# EAGLE library part EPF10K10-P208 (library altera_pga84)
EPF10K10 FLEX 10K family
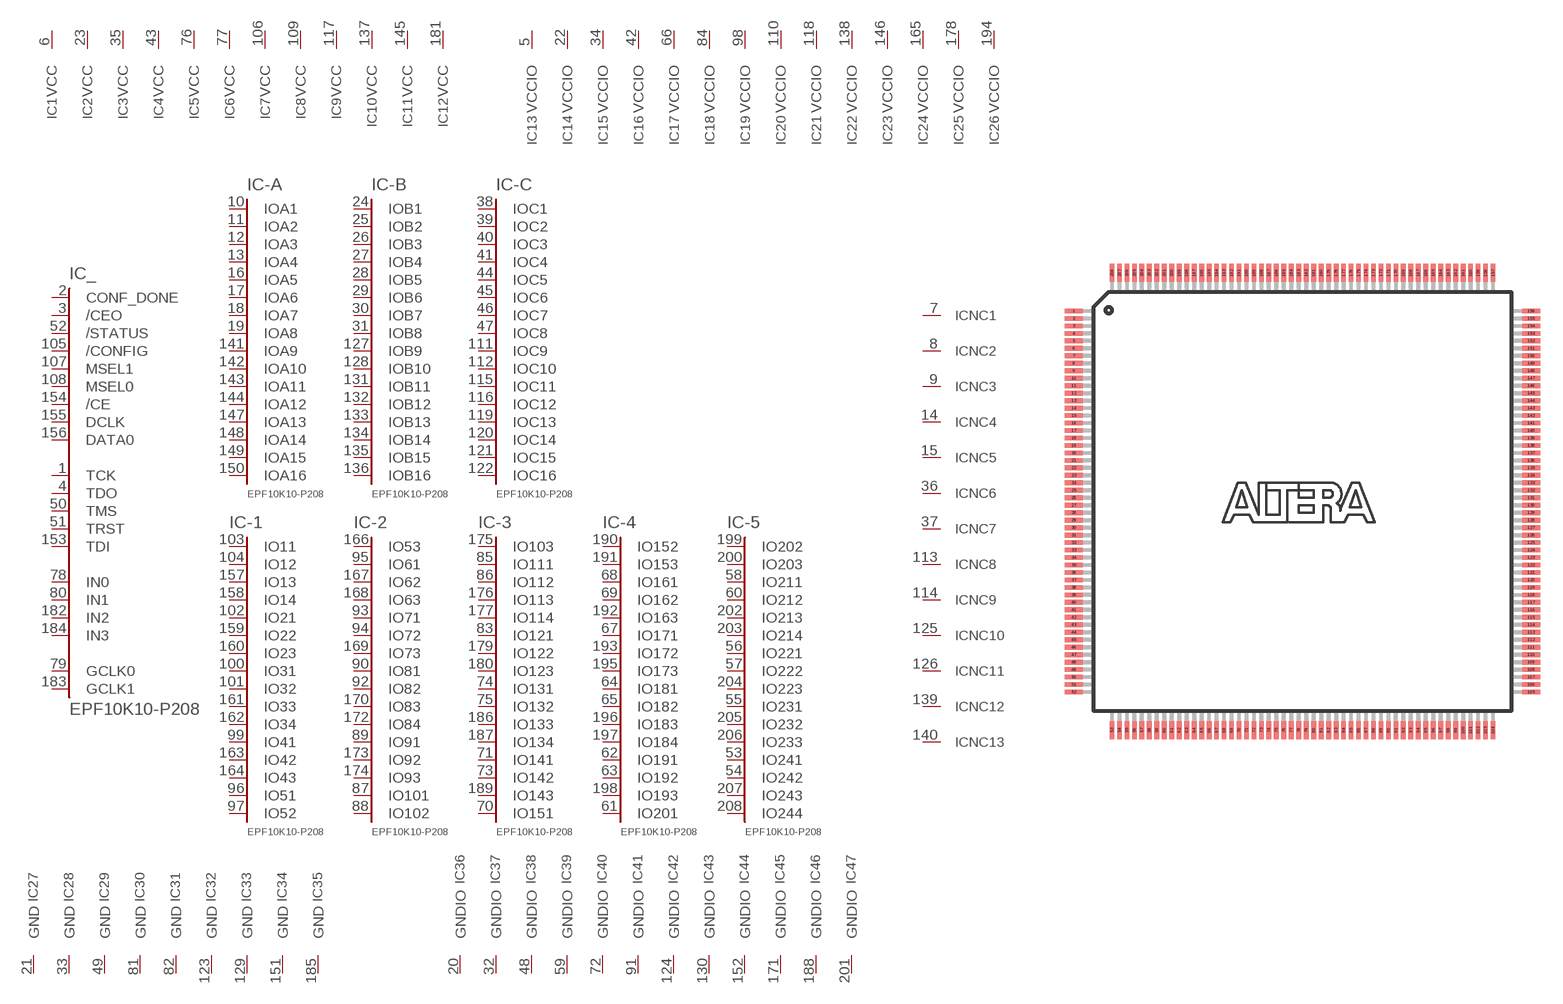
[diagram p55: symbol with the pads of PQFP208; footprint PQFP208]

Designator prefix IC; gates _=K10-CTRL -A=A16 -B=B16 -C=C16 -1=52-K10 -2=102-K10 -3=151-K10 -4=201-K10 -5=244-K10 1=VCCINT 2=VCCINT 3=VCCINT 4=VCCINT 5=VCCINT 6=VCCINT 7=VCCINT 8=VCCINT 9=VCCINT 10=VCCINT 11=VCCINT 12=VCCINT 13=VCCIO 14=VCCIO 15=VCCIO 16=VCCIO 17=VCCIO 18=VCCIO 19=VCCIO 20=VCCIO 21=VCCIO 22=VCCIO 23=VCCIO 24=VCCIO 25=VCCIO 26=VCCIO 27=GNDINT 28=GNDINT 29=GNDINT 30=GNDINT 31=GNDINT 32=GNDINT 33=GNDINT 34=GNDINT 35=GNDINT 36=GNDIO 37=GNDIO 38=GNDIO 39=GNDIO 40=GNDIO 41=GNDIO 42=GNDIO 43=GNDIO 44=GNDIO 45=GNDIO 46=GNDIO 47=GNDIO NC1=NC NC2=NC NC3=NC NC4=NC NC5=NC NC6=NC NC7=NC NC8=NC NC9=NC NC10=NC NC11=NC NC12=NC NC13=NC

## EPF10K10-P208 (MPN: EPF10K10AQC208-3N; OC_FARNELL: 1549381; OC_NEWARK: 51R8749)  [PQFP208]
1  _:TCK
2  _:CONF_DONE  in
3  _:/CEO  in
4  _:TDO
5  13:VCCIO  pwr
6  1:VCC  pwr
7  NC1:NC  nc
8  NC2:NC  nc
9  NC3:NC  nc
10  -A:IOA1
11  -A:IOA2
12  -A:IOA3
13  -A:IOA4
14  NC4:NC  nc
15  NC5:NC  nc
16  -A:IOA5
17  -A:IOA6
18  -A:IOA7
19  -A:IOA8
20  36:GNDIO  pwr
21  27:GND  pwr
22  14:VCCIO  pwr
23  2:VCC  pwr
24  -B:IOB1
25  -B:IOB2
26  -B:IOB3
27  -B:IOB4
28  -B:IOB5
29  -B:IOB6
30  -B:IOB7
31  -B:IOB8
32  37:GNDIO  pwr
33  28:GND  pwr
34  15:VCCIO  pwr
35  3:VCC  pwr
36  NC6:NC  nc
37  NC7:NC  nc
38  -C:IOC1
39  -C:IOC2
40  -C:IOC3
41  -C:IOC4
42  16:VCCIO  pwr
43  4:VCC  pwr
44  -C:IOC5
45  -C:IOC6
46  -C:IOC7
47  -C:IOC8
48  38:GNDIO  pwr
49  29:GND  pwr
50  _:TMS
51  _:TRST
52  _:/STATUS  in
53  -5:IO241
54  -5:IO242
55  -5:IO231
56  -5:IO221
57  -5:IO222
58  -5:IO211
59  39:GNDIO  pwr
60  -5:IO212
61  -4:IO201
62  -4:IO191
63  -4:IO192
64  -4:IO181
65  -4:IO182
66  17:VCCIO  pwr
67  -4:IO171
68  -4:IO161
69  -4:IO162
70  -3:IO151
71  -3:IO141
72  40:GNDIO  pwr
73  -3:IO142
74  -3:IO131
75  -3:IO132
76  5:VCC  pwr
77  6:VCC  pwr
78  _:IN0  in
79  _:GCLK0  in
80  _:IN1  in
81  30:GND  pwr
82  31:GND  pwr
83  -3:IO121
84  18:VCCIO  pwr
85  -3:IO111
86  -3:IO112
87  -2:IO101
88  -2:IO102
89  -2:IO91
90  -2:IO81
91  41:GNDIO  pwr
92  -2:IO82
93  -2:IO71
94  -2:IO72
95  -2:IO61
96  -1:IO51
97  -1:IO52
98  19:VCCIO  pwr
99  -1:IO41
100  -1:IO31
101  -1:IO32
102  -1:IO21
103  -1:IO11
104  -1:IO12
105  _:/CONFIG  in
106  7:VCC  pwr
107  _:MSEL1  in
108  _:MSEL0  in
109  8:VCC  pwr
110  20:VCCIO  pwr
111  -C:IOC9
112  -C:IOC10
113  NC8:NC  nc
114  NC9:NC  nc
115  -C:IOC11
116  -C:IOC12
117  9:VCC  pwr
118  21:VCCIO  pwr
119  -C:IOC13
120  -C:IOC14
121  -C:IOC15
122  -C:IOC16
123  32:GND  pwr
124  42:GNDIO  pwr
125  NC10:NC  nc
126  NC11:NC  nc
127  -B:IOB9
128  -B:IOB10
129  33:GND  pwr
130  43:GNDIO  pwr
131  -B:IOB11
132  -B:IOB12
133  -B:IOB13
134  -B:IOB14
135  -B:IOB15
136  -B:IOB16
137  10:VCC  pwr
138  22:VCCIO  pwr
139  NC12:NC  nc
140  NC13:NC  nc
141  -A:IOA9
142  -A:IOA10
143  -A:IOA11
144  -A:IOA12
145  11:VCC  pwr
146  23:VCCIO  pwr
147  -A:IOA13
148  -A:IOA14
149  -A:IOA15
150  -A:IOA16
151  34:GND  pwr
152  44:GNDIO  pwr
153  _:TDI
154  _:/CE  in
155  _:DCLK  in
156  _:DATA0  in
157  -1:IO13
158  -1:IO14
159  -1:IO22
160  -1:IO23
161  -1:IO33
162  -1:IO34
163  -1:IO42
164  -1:IO43
165  24:VCCIO  pwr
166  -2:IO53
167  -2:IO62
168  -2:IO63
169  -2:IO73
170  -2:IO83
171  45:GNDIO  pwr
172  -2:IO84
173  -2:IO92
174  -2:IO93
175  -3:IO103
176  -3:IO113
177  -3:IO114
178  25:VCCIO  pwr
179  -3:IO122
180  -3:IO123
181  12:VCC  pwr
182  _:IN2  in
183  _:GCLK1  in
184  _:IN3  in
185  35:GND  pwr
186  -3:IO133
187  -3:IO134
188  46:GNDIO  pwr
189  -3:IO143
190  -4:IO152
191  -4:IO153
192  -4:IO163
193  -4:IO172
194  26:VCCIO  pwr
195  -4:IO173
196  -4:IO183
197  -4:IO184
198  -4:IO193
199  -5:IO202
200  -5:IO203
201  47:GNDIO  pwr
202  -5:IO213
203  -5:IO214
204  -5:IO223
205  -5:IO232
206  -5:IO233
207  -5:IO243
208  -5:IO244

## Footprint PQFP208 (pad centres in mm)
Plastic Quad Flat Pack
smd 1.2 x 0.32: 1 -15.3,12.75; 2 -15.3,12.25; 3 -15.3,11.75; 4 -15.3,11.25; 5 -15.3,10.75; 6 -15.3,10.25; 7 -15.3,9.75; 8 -15.3,9.25; 9 -15.3,8.75; 10 -15.3,8.25; 11 -15.3,7.75; 12 -15.3,7.25; 13 -15.3,6.75; 14 -15.3,6.25; 15 -15.3,5.75; 16 -15.3,5.25; 17 -15.3,4.75; 18 -15.3,4.25; 19 -15.3,3.75; 20 -15.3,3.25; 21 -15.3,2.75; 22 -15.3,2.25; 23 -15.3,1.75; 24 -15.3,1.25; 25 -15.3,0.75; 26 -15.3,0.25; 27 -15.3,-0.25; 28 -15.3,-0.75; 29 -15.3,-1.25; 30 -15.3,-1.75; 31 -15.3,-2.25; 32 -15.3,-2.75; 33 -15.3,-3.25; 34 -15.3,-3.75; 35 -15.3,-4.25; 36 -15.3,-4.75; 37 -15.3,-5.25; 38 -15.3,-5.75; 39 -15.3,-6.25; 40 -15.3,-6.75; 41 -15.3,-7.25; 42 -15.3,-7.75; 43 -15.3,-8.25; 44 -15.3,-8.75; 45 -15.3,-9.25; 46 -15.3,-9.75; 47 -15.3,-10.25; 48 -15.3,-10.75; 49 -15.3,-11.25; 50 -15.3,-11.75; 51 -15.3,-12.25; 52 -15.3,-12.75; 105 15.3,-12.75; 106 15.3,-12.25; 107 15.3,-11.75; 108 15.3,-11.25; 109 15.3,-10.75; 110 15.3,-10.25; 111 15.3,-9.75; 112 15.3,-9.25; 113 15.3,-8.75; 114 15.3,-8.25; 115 15.3,-7.75; 116 15.3,-7.25; 117 15.3,-6.75; 118 15.3,-6.25; 119 15.3,-5.75; 120 15.3,-5.25; 121 15.3,-4.75; 122 15.3,-4.25; 123 15.3,-3.75; 124 15.3,-3.25; 125 15.3,-2.75; 126 15.3,-2.25; 127 15.3,-1.75; 128 15.3,-1.25; 129 15.3,-0.75; 130 15.3,-0.25; 131 15.3,0.25; 132 15.3,0.75; 133 15.3,1.25; 134 15.3,1.75; 135 15.3,2.25; 136 15.3,2.75; 137 15.3,3.25; 138 15.3,3.75; 139 15.3,4.25; 140 15.3,4.75; 141 15.3,5.25; 142 15.3,5.75; 143 15.3,6.25; 144 15.3,6.75; 145 15.3,7.25; 146 15.3,7.75; 147 15.3,8.25; 148 15.3,8.75; 149 15.3,9.25; 150 15.3,9.75; 151 15.3,10.25; 152 15.3,10.75; 153 15.3,11.25; 154 15.3,11.75; 155 15.3,12.25; 156 15.3,12.75
smd 0.32 x 1.2: 53 -12.75,-15.3; 54 -12.25,-15.3; 55 -11.75,-15.3; 56 -11.25,-15.3; 57 -10.75,-15.3; 58 -10.25,-15.3; 59 -9.75,-15.3; 60 -9.25,-15.3; 61 -8.75,-15.3; 62 -8.25,-15.3; 63 -7.75,-15.3; 64 -7.25,-15.3; 65 -6.75,-15.3; 66 -6.25,-15.3; 67 -5.75,-15.3; 68 -5.25,-15.3; 69 -4.75,-15.3; 70 -4.25,-15.3; 71 -3.75,-15.3; 72 -3.25,-15.3; 73 -2.75,-15.3; 74 -2.25,-15.3; 75 -1.75,-15.3; 76 -1.25,-15.3; 77 -0.75,-15.3; 78 -0.25,-15.3; 79 0.25,-15.3; 80 0.75,-15.3; 81 1.25,-15.3; 82 1.75,-15.3; 83 2.25,-15.3; 84 2.75,-15.3; 85 3.25,-15.3; 86 3.75,-15.3; 87 4.25,-15.3; 88 4.75,-15.3; 89 5.25,-15.3; 90 5.75,-15.3; 91 6.25,-15.3; 92 6.75,-15.3; 93 7.25,-15.3; 94 7.75,-15.3; 95 8.25,-15.3; 96 8.75,-15.3; 97 9.25,-15.3; 98 9.75,-15.3; 99 10.25,-15.3; 100 10.75,-15.3; 101 11.25,-15.3; 102 11.75,-15.3; 103 12.25,-15.3; 104 12.75,-15.3; 157 12.75,15.3; 158 12.25,15.3; 159 11.75,15.3; 160 11.25,15.3; 161 10.75,15.3; 162 10.25,15.3; 163 9.75,15.3; 164 9.25,15.3; 165 8.75,15.3; 166 8.25,15.3; 167 7.75,15.3; 168 7.25,15.3; 169 6.75,15.3; 170 6.25,15.3; 171 5.75,15.3; 172 5.25,15.3; 173 4.75,15.3; 174 4.25,15.3; 175 3.75,15.3; 176 3.25,15.3; 177 2.75,15.3; 178 2.25,15.3; 179 1.75,15.3; 180 1.25,15.3; 181 0.75,15.3; 182 0.25,15.3; 183 -0.25,15.3; 184 -0.75,15.3; 185 -1.25,15.3; 186 -1.75,15.3; 187 -2.25,15.3; 188 -2.75,15.3; 189 -3.25,15.3; 190 -3.75,15.3; 191 -4.25,15.3; 192 -4.75,15.3; 193 -5.25,15.3; 194 -5.75,15.3; 195 -6.25,15.3; 196 -6.75,15.3; 197 -7.25,15.3; 198 -7.75,15.3; 199 -8.25,15.3; 200 -8.75,15.3; 201 -9.25,15.3; 202 -9.75,15.3; 203 -10.25,15.3; 204 -10.75,15.3; 205 -11.25,15.3; 206 -11.75,15.3; 207 -12.25,15.3; 208 -12.75,15.3